# EAGLE library part #NEUTRON (library PygmyBoards)
Neutron Board and Shield Footprint Pads This is the only absolutely required part for the footprint. The parts in "#NEUTRON-PART" are merely aesthetic.
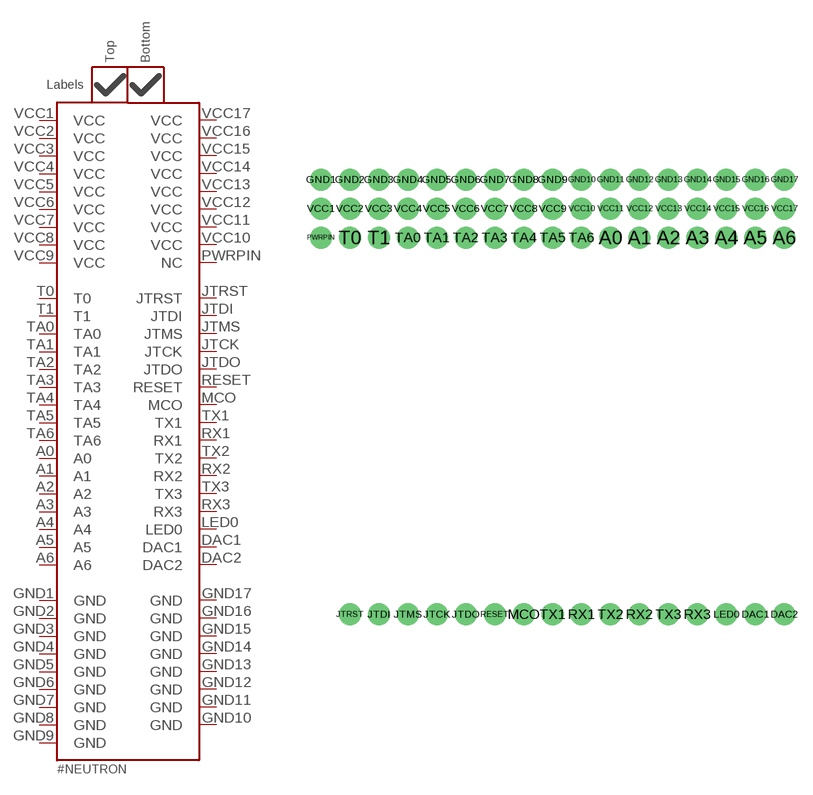
[diagram p1: symbol with the pads of #NEUTRON-PTH; footprint #NEUTRON-PTH]

Designator prefix NEUTRON

## #NEUTRON  [#NEUTRON-PTH]
A0  A0  nc
A1  A1  nc
A2  A2  nc
A3  A3  nc
A4  A4  nc
A5  A5  nc
A6  A6  nc
DAC1  DAC1  nc
DAC2  DAC2  nc
GND1  GND  pwr
GND2  GND  pwr
GND3  GND  pwr
GND4  GND  pwr
GND5  GND  pwr
GND6  GND  pwr
GND7  GND  pwr
GND8  GND  pwr
GND9  GND  pwr
GND10  GND  pwr
GND11  GND  pwr
GND12  GND  pwr
GND13  GND  pwr
GND14  GND  pwr
GND15  GND  pwr
GND16  GND  pwr
GND17  GND  pwr
JTCK  JTCK  nc
JTDI  JTDI  nc
JTDO  JTDO  nc
JTMS  JTMS  nc
JTRST  JTRST  nc
LED0  LED0  nc
MCO  MCO  nc
PWRPIN  NC  nc
RESET  RESET  nc
RX1  RX1  nc
RX2  RX2  nc
RX3  RX3  nc
T0  T0  nc
T1  T1  nc
TA0  TA0  nc
TA1  TA1  nc
TA2  TA2  nc
TA3  TA3  nc
TA4  TA4  nc
TA5  TA5  nc
TA6  TA6  nc
TX1  TX1  nc
TX2  TX2  nc
TX3  TX3  nc
VCC1  VCC  pwr
VCC2  VCC  pwr
VCC3  VCC  pwr
VCC4  VCC  pwr
VCC5  VCC  pwr
VCC6  VCC  pwr
VCC7  VCC  pwr
VCC8  VCC  pwr
VCC9  VCC  pwr
VCC10  VCC  pwr
VCC11  VCC  pwr
VCC12  VCC  pwr
VCC13  VCC  pwr
VCC14  VCC  pwr
VCC15  VCC  pwr
VCC16  VCC  pwr
VCC17  VCC  pwr

## Footprint #NEUTRON-PTH (pad centres in mm)
Plated through holes
drill 1.016 pad 1.93: A0 -27.94,-7.62; A1 -25.4,-7.62; A2 -22.86,-7.62; A3 -20.32,-7.62; A4 -17.78,-7.62; A5 -15.24,-7.62; A6 -12.7,-7.62; DAC1 -15.24,-40.64; DAC2 -12.7,-40.64; GND1 -53.34,-2.54; GND2 -50.8,-2.54; GND3 -48.26,-2.54; GND4 -45.72,-2.54; GND5 -43.18,-2.54; GND6 -40.64,-2.54; GND7 -38.1,-2.54; GND8 -35.56,-2.54; GND9 -33.02,-2.54; GND10 -30.48,-2.54; GND11 -27.94,-2.54; GND12 -25.4,-2.54; GND13 -22.86,-2.54; GND14 -20.32,-2.54; GND15 -17.78,-2.54; GND16 -15.24,-2.54; GND17 -12.7,-2.54; JTCK -43.18,-40.64; JTDI -48.26,-40.64; JTDO -40.64,-40.64; JTMS -45.72,-40.64; JTRST -50.8,-40.64; LED0 -17.78,-40.64; MCO -35.56,-40.64; PWRPIN -53.34,-7.62; RESET -38.1,-40.64; RX1 -30.48,-40.64; RX2 -25.4,-40.64; RX3 -20.32,-40.64; T0 -50.8,-7.62; T1 -48.26,-7.62; TA0 -45.72,-7.62; TA1 -43.18,-7.62; TA2 -40.64,-7.62; TA3 -38.1,-7.62; TA4 -35.56,-7.62; TA5 -33.02,-7.62; TA6 -30.48,-7.62; TX1 -33.02,-40.64; TX2 -27.94,-40.64; TX3 -22.86,-40.64; VCC1 -53.34,-5.08; VCC2 -50.8,-5.08; VCC3 -48.26,-5.08; VCC4 -45.72,-5.08; VCC5 -43.18,-5.08; VCC6 -40.64,-5.08; VCC7 -38.1,-5.08; VCC8 -35.56,-5.08; VCC9 -33.02,-5.08; VCC10 -30.48,-5.08; VCC11 -27.94,-5.08; VCC12 -25.4,-5.08; VCC13 -22.86,-5.08; VCC14 -20.32,-5.08; VCC15 -17.78,-5.08; VCC16 -15.24,-5.08; VCC17 -12.7,-5.08